# EAGLE library part MA20-2 (library con-edge-100)
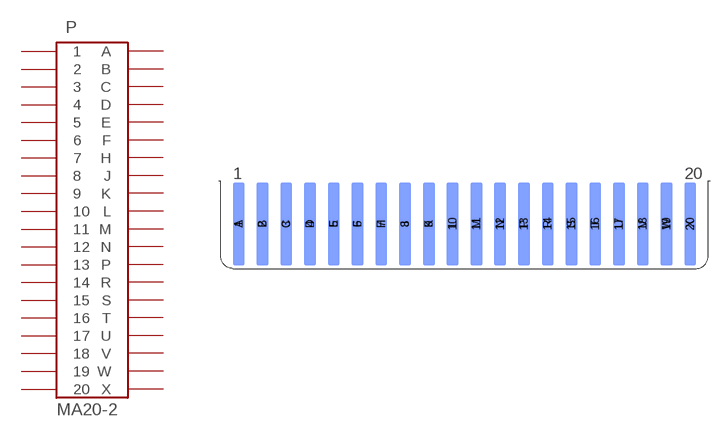
[diagram p3: symbol with the pads of MA20-2; footprint MA20-2]

Designator prefix P

## MA20-2  [MA20-2]
1  1  pas
2  2  pas
3  3  pas
4  4  pas
5  5  pas
6  6  pas
7  7  pas
8  8  pas
9  9  pas
10  10  pas
11  11  pas
12  12  pas
13  13  pas
14  14  pas
15  15  pas
16  16  pas
17  17  pas
18  18  pas
19  19  pas
20  20  pas
A  A  pas
B  B  pas
C  C  pas
D  D  pas
E  E  pas
F  F  pas
H  H  pas
J  J  pas
K  K  pas
L  L  pas
M  M  pas
N  N  pas
P  P  pas
R  R  pas
S  S  pas
T  T  pas
U  U  pas
V  V  pas
W  W  pas
X  X  pas

## Footprint MA20-2 (pad centres in mm)
smd 1.27 x 8.89: 1 -24.13,-0.305; 2 -21.59,-0.305; 3 -19.05,-0.305; 4 -16.51,-0.305; 5 -13.97,-0.305; 6 -11.43,-0.305; 7 -8.89,-0.305; 8 -6.35,-0.305; 9 -3.81,-0.305; 10 -1.27,-0.305; 11 1.27,-0.305; 12 3.81,-0.305; 13 6.35,-0.305; 14 8.89,-0.305; 15 11.43,-0.305; 16 13.97,-0.305; 17 16.51,-0.305; 18 19.05,-0.305; 19 21.59,-0.305; 20 24.13,-0.305
smd 1.27 x 8.89 bottom: A -24.13,-0.305; B -21.59,-0.305; C -19.05,-0.305; D -16.51,-0.305; E -13.97,-0.305; F -11.43,-0.305; H -8.89,-0.305; J -6.35,-0.305; K -3.81,-0.305; L -1.27,-0.305; M 1.27,-0.305; N 3.81,-0.305; P 6.35,-0.305; R 8.89,-0.305; S 11.43,-0.305; T 13.97,-0.305; U 16.51,-0.305; V 19.05,-0.305; W 21.59,-0.305; X 24.13,-0.305